# Altium footprint library PcbLib1.PcbLib: 5 footprints
Each footprint in its own frame and in the unit in brackets; x right, y up, seen from the top. Pads: shape width x height; smd on the part's side, far side on the other; paste and mask are expansions set on the pad; w line width, h text height; cw(c..) or ccw(c..) is an arc to the next point about the centre after c.
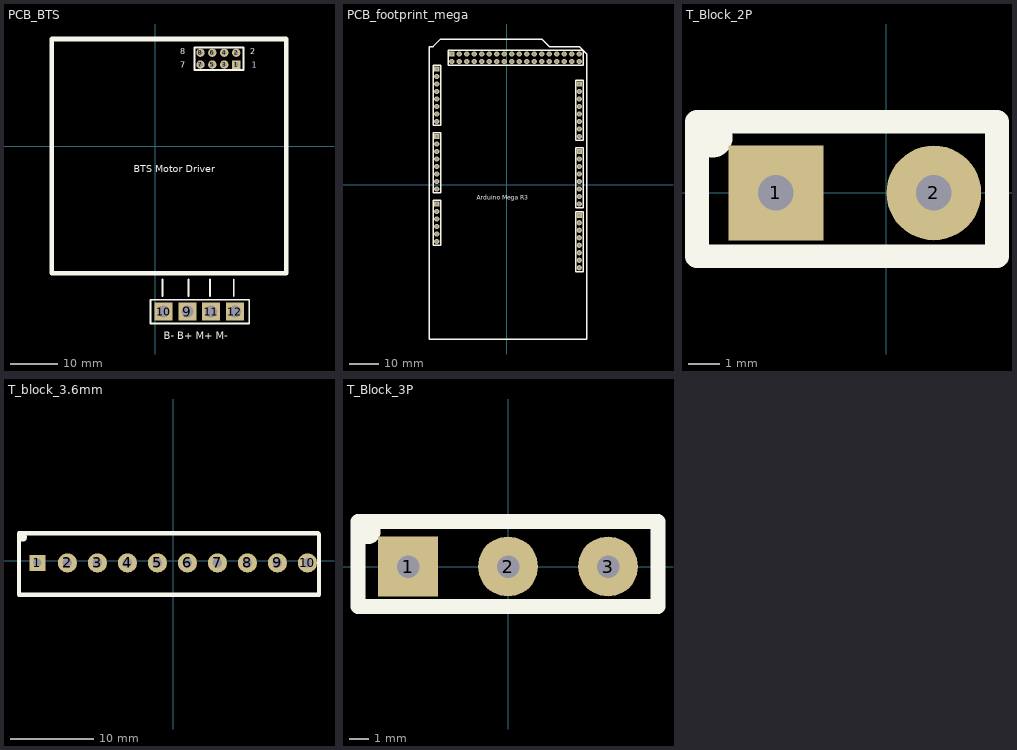
[diagram p0: the footprints below, top view; thin cyan lines are the x and y axes]

## PCB_BTS [mil]
pads (12):
  rect 70x70 hole 40: 1(680,685)
  round 70 hole 40: 2(680,785) 3(580,685) 4(580,785) 5(480,685) 6(480,785) 7(380,685) 8(380,785)
  rect 150x150 hole 100: 9(270,-1390) 10(70,-1390) 11(470,-1390) 12(670,-1390)
Top Overlay:
  lines w16: 60,-1260 60,-1120 60,-1140 ; 280,-1260 280,-1130 280,-1120 ; 460,-1260 460,-1130 460,-1120 ; 660,-1260 660,-1120 ; -40,-1490 790,-1490 790,-1290 -40,-1290 -40,-1490 ; 330,640 740,640 740,830 330,830 330,640
  lines w40: -868.5,-1068.5 1100,-1068.5 1100,900 -868.5,900 -868.5,-1068.5
  text "BTS Motor Driver" at -180,-238.89 h100
  text "7" at 210,660 h50
  text "8" at 210,770 h50
  text "2" at 800,770 h50
  text "1" at 810,660 h50
  text "B- B+ M+ M-" at 70,-1620 h60
3D body "BTS7960 43A HIGH POWER H BRIDGE MODULE.STEP": height 1305.51, standoff -363.78, extent -843.94,-1060.32 1163.94,900.32

## PCB_footprint_mega [mil] "Arduino_Mega"
pads (82):
  rect 70x70 hole 35.43: 0(970,440) 8(970,-410) 21(970,1340) 59(-930,-260) 67(-930,640) 75(-930,1540) 79(-730,1740)
  round 70 hole 35.43: 1(970,340) 2(970,240) 3(970,140) 4(970,40) 5(970,-60) 6(970,-160) 7(970,-260) 9(970,-510) 10(970,-610) 11(970,-710) 12(970,-810) 13(970,-910) 14(970,640) 15(970,740) 16(970,840) 17(970,940) 18(970,1040) 19(970,1140) 20(970,1240) 22(870,1640) 23(870,1740) 24(770,1640) 25(770,1740) 26(670,1640) 27(670,1740) 28(570,1640) 29(570,1740) 30(470,1640) 31(470,1740) 32(370,1640) 33(370,1740) 34(270,1640) 35(270,1740) 36(170,1640) 37(170,1740) 38(70,1640) 39(70,1740) 40(-30,1640) 41(-30,1740) 42(-130,1640) 43(-130,1740) 44(-230,1640) 45(-230,1740) 46(-330,1640) 47(-330,1740) 48(-430,1640) 49(-430,1740) 50(-530,1640) 51(-530,1740) 52(-630,1640) 53(-630,1740) 54(-930,-760) 55(-930,-660) 56(-930,-560) 57(-930,-460) 58(-930,-360) 60(-930,-60) 61(-930,40) 62(-930,140) 63(-930,240) 64(-930,340) 65(-930,440) 66(-930,540) 68(-930,840) 69(-930,940) 70(-930,1040) 71(-930,1140) 72(-930,1240) 73(-930,1340) 74(-930,1440) 76(970,-1010) 77(970,-1110) 78(-730,1640) 80(970,1740) 81(970,1640)
Top Overlay:
  lines w20: 569.61,1840 469.61,1940 -880,1940 -980,1840 -1030,1840 -1030,-1995.43 -1030,-2060 -965.43,-2060 1070,-2060 1070,1740 970,1840 570,1840 ; -980,-810 -880,-810 -880,-210 -980,-210 -980,-810 ; -980,-110 -980,690 -880,690 -880,-110 -980,-110 ; -980,790 -880,790 -880,1590 -980,1590 -980,790 ; -780,1590 -780,1790 1020,1790 1020,1590 -780,1590 ; 920,-1160 1020,-1160 1020,-360 920,-360 920,-1160 ; 920,-310 920,490 1020,490 1020,-310 920,-310 ; 920,590 920,1390 1020,1390 1020,590 920,590
  text "Arduino Mega R3" at -400,-200 h60
3D body "Arduino Mega 2560 R3 v23.step": height 490, standoff 17.56, extent -1020,-2257.33 1066.61,1927.33

## T_Block_2P [mil]
pads (2):
  rect 120x120 hole 45: 1(-140,0)
  round 120 hole 45: 2(60,0)
Top Overlay:
  circle w30: c-220,70 r10
  lines w30: -240,-80 -240,90 140,90 140,30 140,-80 -240,-80
3D body "2er Terminal Block.step": height 571.18, standoff -147.32, extent -257.87,-183.7 157.87,210

## T_block_3.6mm [mil]
pads (10):
  rect 75x75 hole 40: 1(-640,-10)
  round 90 hole 45: 2(-498.58,-10) 3(-357.16,-10) 4(-215.74,-10) 5(-74.32,-10) 6(67.1,-10) 7(208.52,-10) 8(349.94,-10) 9(491.36,-10) 10(632.78,-10)
Top Overlay:
  circle w20: c-710,110 r10
  lines w6: 682.9,130 687.1,125.8
  lines w20: 682.9,130 -727.1,130 -727.1,-160 687.1,-160 687.1,125.8

## T_Block_3P [mil]
pads (3):
  rect 120x120 hole 45: 1(-200,0)
  round 120 hole 45: 2(0,0) 3(200,0)
Top Overlay:
  circle w30: c-280,70 r10
  lines w30: -300,-80 300,-80 300,90 -300,90 -300,-80
3D body "3er Terminal Block.step": height 571.18, standoff -147.32, extent -315.75,-210 300,183.7